# EAGLE library part RF-BM-S02 (library blinkinlabs)
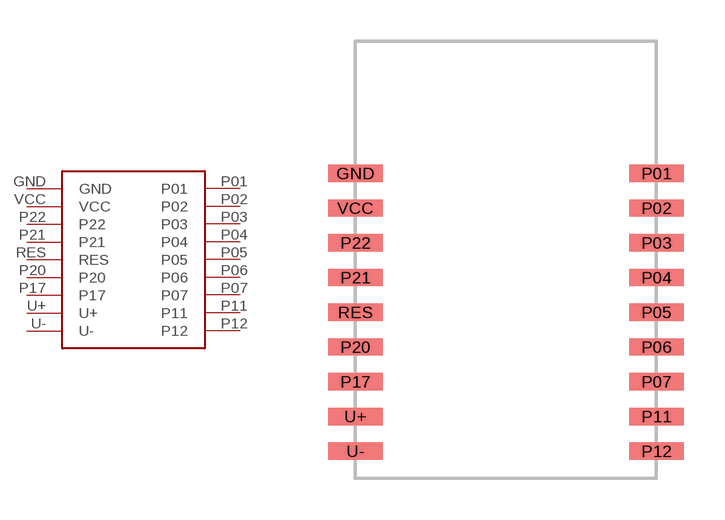
[diagram p33: symbol with the pads of RF-BM-S02; footprint RF-BM-S02]

Designator prefix -

## RF-BM-S02  [RF-BM-S02]
GND  GND
P01  P01
P02  P02
P03  P03
P04  P04
P05  P05
P06  P06
P07  P07
P11  P11
P12  P12
P17  P17
P20  P20
P21  P21
P22  P22
RES  RES
U+  U+
U-  U-
VCC  VCC

## Footprint RF-BM-S02 (pad centres in mm)
smd 2 x 0.635: GND -5.5,5.16; P01 5.5,5.16; P02 5.5,3.89; P03 5.5,2.62; P04 5.5,1.35; P05 5.5,0.08; P06 5.5,-1.19; P07 5.5,-2.46; P11 5.5,-3.73; P12 5.5,-5; P17 -5.5,-2.46; P20 -5.5,-1.19; P21 -5.5,1.35; P22 -5.5,2.62; RES -5.5,0.08; U+ -5.5,-3.73; U- -5.5,-5; VCC -5.5,3.89